# EAGLE library part TSW-S-46 (library con-samtec-tsw)
HEADER
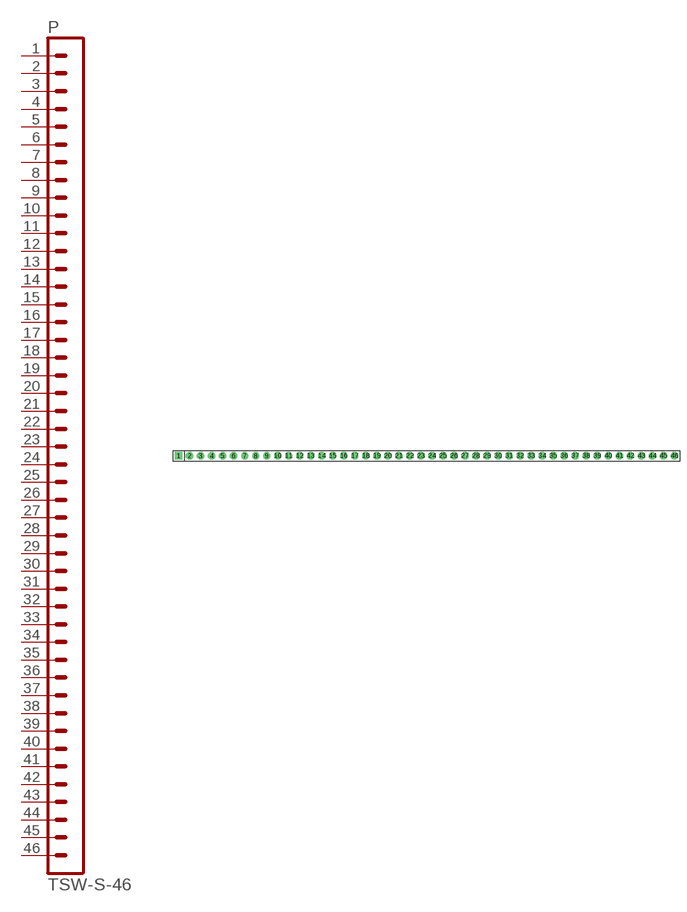
[diagram p40: symbol with the pads of TSW-S-46; footprint TSW-S-46]

Designator prefix P

## TSW-S-46  [TSW-S-46]
1  1  pas
2  2  pas
3  3  pas
4  4  pas
5  5  pas
6  6  pas
7  7  pas
8  8  pas
9  9  pas
10  10  pas
11  11  pas
12  12  pas
13  13  pas
14  14  pas
15  15  pas
16  16  pas
17  17  pas
18  18  pas
19  19  pas
20  20  pas
21  21  pas
22  22  pas
23  23  pas
24  24  pas
25  25  pas
26  26  pas
27  27  pas
28  28  pas
29  29  pas
30  30  pas
31  31  pas
32  32  pas
33  33  pas
34  34  pas
35  35  pas
36  36  pas
37  37  pas
38  38  pas
39  39  pas
40  40  pas
41  41  pas
42  42  pas
43  43  pas
44  44  pas
45  45  pas
46  46  pas

## Footprint TSW-S-46 (pad centres in mm)
HEADER
drill 0.914 pad 1.676 square: 1 -57.15,0
drill 0.914 pad 1.676 octagon: 2 -54.61,0; 3 -52.07,0; 4 -49.53,0; 5 -46.99,0; 6 -44.45,0; 7 -41.91,0; 8 -39.37,0; 9 -36.83,0; 10 -34.29,0; 11 -31.75,0; 12 -29.21,0; 13 -26.67,0; 14 -24.13,0; 15 -21.59,0; 16 -19.05,0; 17 -16.51,0; 18 -13.97,0; 19 -11.43,0; 20 -8.89,0; 21 -6.35,0; 22 -3.81,0; 23 -1.27,0; 24 1.27,0; 25 3.81,0; 26 6.35,0; 27 8.89,0; 28 11.43,0; 29 13.97,0; 30 16.51,0; 31 19.05,0; 32 21.59,0; 33 24.13,0; 34 26.67,0; 35 29.21,0; 36 31.75,0; 37 34.29,0; 38 36.83,0; 39 39.37,0; 40 41.91,0; 41 44.45,0; 42 46.99,0; 43 49.53,0; 44 52.07,0; 45 54.61,0; 46 57.15,0